# Altium schematic symbol library header.SchLib: 1 symbol
Pins are listed as number, name and electrical type; pins without a type are passive.

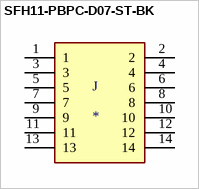
[diagram p0: symbol SFH11-PBPC-D07-ST-BK]

## SFH11-PBPC-D07-ST-BK
designator J
14 Position Header Connector Through Hole; MP: SFH11-PBPC-D07-ST-BK; MF: Sullins Connector; Availability: Unavailable; Price: None; Package: None; Value: *; SnapEDA_Link: https://www.snapeda.com/parts/SFH11-PBPC-D07-ST-BK/Sullins%20Connector%20Solutions/view-part/851415/?ref=snap
footprint SULLINS_SFH11-PBPC-D07-ST-BK
pins: 1, 2, 3, 4, 5, 6, 7, 8, 9, 10, 11, 12, 13, 14